# Altium schematic symbol library UA741CP.SchLib: 1 symbol
Pins are listed as number, name and electrical type; pins without a type are passive.

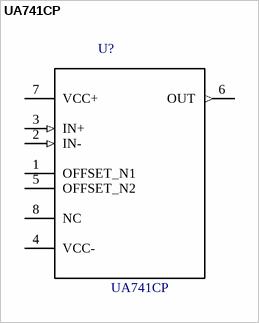
[diagram p0: symbol UA741CP]

## UA741CP
designator U?
/ OP Amp Single GP Â±18V 8-Pin PDIP Tube OP Amp Single GP Â±18V 8-Pin PDIP Tube OP Amp Single GP Â±18V 8-Pin PDIP Tube /; MF: Texas Instruments; Price: None; Package: PDIP-8 Texas Instruments; MP: UA741CP; SnapEDA_Link: https://www.snapeda.com/parts/UA741CP/Texas%20Instruments/view-part/?ref=snap; Availability: Unavailable; Value: *
footprint *DIP254P762X508-8
pins: 1 OFFSET_N1, 2 IN- (in), 3 IN+ (in), 4 VCC- (power), 5 OFFSET_N2, 6 OUT (out), 7 VCC+ (power), 8 NC